# Altium footprint library Soldeerstation_Final.PcbLib: 27 footprints (part 1 of 2)
Each footprint in its own frame and in the unit in brackets; x right, y up, seen from the top. Pads: shape width x height; smd on the part's side, far side on the other; paste and mask are expansions set on the pad; w line width, h text height; cw(c..) or ccw(c..) is an arc to the next point about the centre after c.
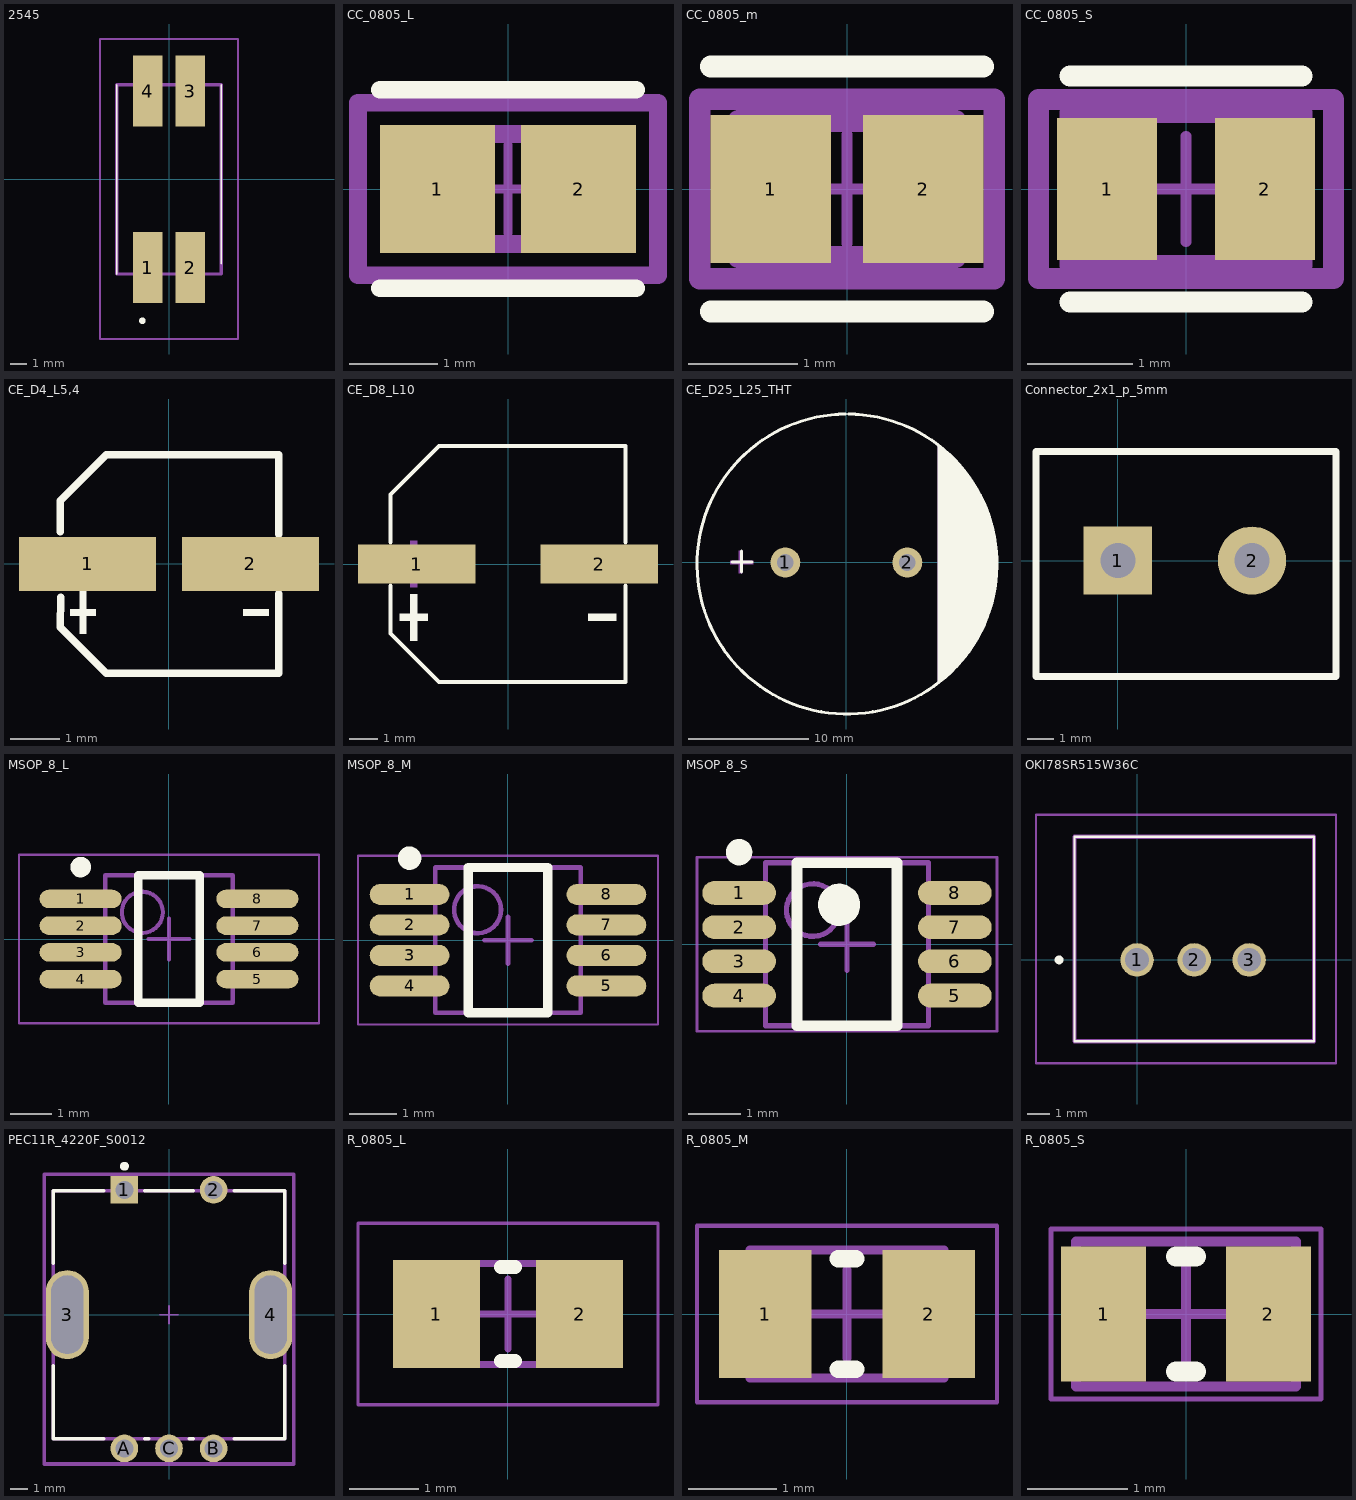
[diagram p0: the footprints below, top view; thin cyan lines are the x and y axes]

## 2545 [mm]
pads (4):
  rect 1.78x4.27 smd: 1(-1.27,-5.305) 2(1.27,-5.305) 3(1.27,5.305) 4(-1.27,5.305)
Top Overlay:
  lines w0.1: -3.15,-5.69 -3.15,5.69 ; 3.15,-5.08 3.15,5.69
  lines w0.2: -1.7,-8.5 ccw(c-1.6,-8.5) -1.5,-8.5 ccw(c-1.6,-8.5) -1.7,-8.5
Mechanical 13:
  lines w0.2: -3.15,-5.69 -3.15,5.69 3.15,5.69 3.15,-5.69 -3.15,-5.69
Mechanical 15:
  lines w0.1: -4.15,-9.6 -4.15,8.44 4.15,8.44 4.15,-9.6 -4.15,-9.6
3D body "CM2545X171R-10.stp": height 9.6, standoff 0, extent -3.15,-7.262 3.15,7.262

## CC_0805_L [mm]
pads (2):
  rect 1.305x1.456 smd paste+0 mask+0: 1(-0.801,0) 2(0.801,0)
Top Overlay:
  lines w0.2: -1.453,-1.128 1.453,-1.128 ; -1.453,1.128 1.453,1.128
Top 3D Body:
  lines w0.2: -1,-0.625 1,-0.625 1,0.625 -1,0.625 -1,-0.625
Top Courtyard:
  lines w0.2: -1.703,-0.978 1.703,-0.978 1.703,0.978 -1.703,0.978 -1.703,-0.978
Top Assembly:
  lines w0.2: -1.703,-0.978 1.703,-0.978 1.703,0.978 -1.703,0.978 -1.703,-0.978
  text ".Designator" at 0,0.188 h1
Top Component Center:
  lines w0.1: -0.5,0 0.5,0 ; 0,-0.5 0,0.5
3D body "Cap_KEMET_C0805C472J3HAC_eec.STEP": height 0.25, standoff 0, extent -1.703,-0.978 1.703,0.978

## CC_0805_m [mm]
pads (2):
  rect 1.105x1.356 smd paste+0 mask+0: 1(-0.701,0) 2(0.701,0)
Top Overlay:
  lines w0.2: -1.253,-1.125 1.253,-1.125 ; -1.253,1.125 1.253,1.125
Top 3D Body:
  lines w0.2: -1,-0.625 -1,0.625 1,0.625 1,-0.625 -1,-0.625
Top Courtyard:
  lines w0.2: -1.353,-0.825 -1.353,0.825 1.353,0.825 1.353,-0.825 -1.353,-0.825
Top Assembly:
  lines w0.2: -1.353,-0.825 -1.353,0.825 1.353,0.825 1.353,-0.825 -1.353,-0.825
  text ".Designator" at 0,0.188 h1
Top Component Center:
  lines w0.1: -0.5,0 0.5,0 ; 0,-0.5 0,0.5
3D body "Cap_KEMET_C0805C472J3HAC_eec.STEP": height 0.25, standoff 0, extent -1.353,-0.825 1.353,0.825

## CC_0805_S [mm]
pads (2):
  rect 0.95x1.35 smd paste+0 mask+0: 1(-0.75,0) 2(0.75,0)
Top Overlay:
  lines w0.2: -1.1,-1.075 1.1,-1.075 ; -1.1,1.075 1.1,1.075
Top 3D Body:
  lines w0.2: -1.1,-0.725 -1.1,0.725 1.1,0.725 1.1,-0.725 -1.1,-0.725
Top Courtyard:
  lines w0.2: -1.4,-0.85 -1.4,0.85 1.4,0.85 1.4,-0.85 -1.4,-0.85
Top Assembly:
  lines w0.2: -1.4,-0.85 -1.4,0.85 1.4,0.85 1.4,-0.85 -1.4,-0.85
  text ".Designator" at 0,0.188 h1
Top Component Center:
  lines w0.1: -0.5,0 0.5,0 ; 0,-0.5 0,0.5
3D body "Cap_KEMET_C0805C472J3HAC_eec.STEP": height 0.25, standoff 0, extent -1.4,-0.85 1.4,0.85

## CE_D4_L5,4 [mm]
pads (2):
  rect 2.8x1.1 smd: 1(-1.66,0) 2(1.66,0)
Top Overlay:
  region: 2.031,-0.925 2.031,-1.054 1.515,-1.054 1.515,-0.925
  region: -2.011,-0.925 -2.011,-1.054 -1.495,-1.054 -1.495,-0.925
  region: -1.818,-0.559 -1.818,-1.419 -1.689,-1.419 -1.689,-0.559
  lines w0.152: -2.215,0.66 -2.217,1.29 -1.28,2.225 2.235,2.225 2.235,0.607 ; -2.21,-0.676 -2.217,-1.29 -1.28,-2.226 2.236,-2.226 2.236,-0.607
Mechanical 15:
  region: 2.031,0.064 2.031,-0.065 1.515,-0.065 1.515,0.064
  region: -2.011,0.064 -2.011,-0.065 -1.495,-0.065 -1.495,0.064
  region: -1.818,0.43 -1.818,-0.43 -1.689,-0.43 -1.689,0.43

## CE_D8_L10 [mm]
pads (2):
  rect 4.2x1.4 smd: 1(-3.267,0) 2(3.267,0)
Top Overlay:
  region: 3.876,-1.785 3.876,-2.033 2.88,-2.033 2.88,-1.785
  region: -3.876,-1.785 -3.876,-2.033 -2.88,-2.033 -2.88,-1.785
  region: -3.503,-1.079 -3.503,-2.739 -3.254,-2.739 -3.254,-1.079
  lines w0.152: -4.201,-0.782 -4.201,-2.49 -2.465,-4.226 4.201,-4.226 4.201,-0.782 ; -4.201,0.782 -4.201,2.49 -2.465,4.226 4.201,4.226 4.201,0.782
Mechanical 15:
  region: 3.876,0.125 3.876,-0.125 2.88,-0.125 2.88,0.125
  region: -3.876,0.125 -3.876,-0.125 -2.88,-0.125 -2.88,0.125
  region: -3.503,0.83 -3.503,-0.83 -3.254,-0.83 -3.254,0.83

## CE_D25_L25_THT [mm]
pads (2):
  round 2.5 hole 1.4: 1(-5.08,0) 2(5.08,0)
Top Overlay:
  region: 7.62,-10.1 8,-9.808 8.712,-9.168 9.374,-8.476 9.981,-7.735 10.53,-6.95 11.017,-6.125 11.44,-5.266 11.797,-4.377 12.084,-3.463 12.301,-2.531 12.447,-1.584 12.52,-0.629 12.52,0.329 12.447,1.284 12.301,2.231 12.084,3.163 11.797,4.077 11.44,4.966 11.017,5.825 10.53,6.65 9.981,7.435 9.374,8.176 8.712,8.868 8,9.508 7.62,9.8
  lines w0.254: -9.525,0.051 -7.849,0.051 ; -8.738,-0.787 -8.738,0.94 ; -0.051,12.372 ccw(c0.058,-0.127) 0.168,12.372
Mechanical 15:
  region: 7.62,-10.1 8,-9.808 8.712,-9.168 9.374,-8.476 9.981,-7.735 10.53,-6.95 11.017,-6.125 11.44,-5.266 11.797,-4.377 12.084,-3.463 12.301,-2.531 12.447,-1.584 12.52,-0.629 12.52,0.329 12.447,1.284 12.301,2.231 12.084,3.163 11.797,4.077 11.44,4.966 11.017,5.825 10.53,6.65 9.981,7.435 9.374,8.176 8.712,8.868 8,9.508 7.62,9.8
  region: -9.65,0.15 -7.75,0.15 -7.75,-0.15 -9.65,-0.15
  region: -8.981,-0.906 -8.981,0.994 -8.681,0.994 -8.681,-0.906

## Connector_2x1_p_5mm [mm]
pads (2):
  rect 2.54x2.54 hole 1.3: 1(0,0)
  round 2.54 hole 1.3: 2(5,0)
Top Overlay:
  lines w0.254: -3.048,-4.318 8.128,-4.318 8.128,-3.54 8.128,-3 8.128,-1.968 8.128,1.714 8.128,2.746 8.128,4.064 7.874,4.064 -3.048,4.064 -3.048,0 -3.048,-4.318

## MSOP_8_L [mm] "TSOP, 8-Leads, Body 3x3mm, Pitch 0.65mm, IPC Low Density"
height 1.1
pads (8):
  oval 2x0.45 smd: 1(-2.15,0.975) 2(-2.15,0.325) 3(-2.15,-0.325) 4(-2.15,-0.975) 5(2.15,-0.975) 6(2.15,-0.325) 7(2.15,0.325) 8(2.15,0.975)
Top Overlay:
  circle w0.25: c-2.15,1.75 r0.125
  lines w0.2: -0.75,-1.55 -0.75,1.55 0.75,1.55 0.75,-1.55 -0.75,-1.55
Mechanical 13:
  circle w0.1: c-0.65,0.65 r0.5
  lines w0.1: -1.55,-1.55 -1.55,1.55 1.55,1.55 1.55,-1.55 -1.55,-1.55
Mechanical 15:
  lines w0.05: -3.65,-2.05 -3.65,2.05 3.65,2.05 3.65,-2.05 -3.65,-2.05
  lines w0.1: -0.5,0 0.5,0 ; 0,-0.5 0,0.5
3D body: height 1.1, standoff 0, extent -1.55,-1.55 1.55,1.55

## MSOP_8_M [mm] "TSOP, 8-Leads, Body 3x3mm, Pitch 0.65mm, IPC Medium Density"
height 1.1
pads (8):
  oval 1.7x0.45 smd: 1(-2.1,0.975) 2(-2.1,0.325) 3(-2.1,-0.325) 4(-2.1,-0.975) 5(2.1,-0.975) 6(2.1,-0.325) 7(2.1,0.325) 8(2.1,0.975)
Top Overlay:
  circle w0.25: c-2.1,1.75 r0.125
  lines w0.2: -0.85,-1.55 0.85,-1.55 0.85,1.55 -0.85,1.55 -0.85,-1.55
Mechanical 13:
  circle w0.1: c-0.65,0.65 r0.5
  lines w0.1: -1.55,-1.55 1.55,-1.55 1.55,1.55 -1.55,1.55 -1.55,-1.55
Mechanical 15:
  lines w0.05: -3.2,-1.8 3.2,-1.8 3.2,1.8 -3.2,1.8 -3.2,-1.8
  lines w0.1: -0.5,0 0.5,0 ; 0,-0.5 0,0.5
3D body: height 1.1, standoff 0, extent -1.55,-1.55 1.55,1.55

## MSOP_8_S [mm] "TSOP, 8-Leads, Body 3x3mm, Pitch 0.65mm, IPC High Density"
height 1.1
pads (8):
  oval 1.4x0.45 smd: 1(-2.05,0.975) 2(-2.05,0.325) 3(-2.05,-0.325) 4(-2.05,-0.975) 5(2.05,-0.975) 6(2.05,-0.325) 7(2.05,0.325) 8(2.05,0.975)
Top Overlay:
  circle w0.4: c-0.15,0.75 r0.2
  circle w0.25: c-2.05,1.75 r0.125
  lines w0.2: -0.95,-1.55 0.95,-1.55 0.95,1.55 -0.95,1.55 -0.95,-1.55
Mechanical 13:
  circle w0.1: c-0.65,0.65 r0.5
  lines w0.1: -1.55,-1.55 1.55,-1.55 1.55,1.55 -1.55,1.55 -1.55,-1.55
Mechanical 15:
  lines w0.05: -2.85,-1.65 2.85,-1.65 2.85,1.65 -2.85,1.65 -2.85,-1.65
  lines w0.1: -0.5,0 0.5,0 ; 0,-0.5 0,0.5
3D body: height 1.1, standoff 0, extent -1.55,-1.55 1.55,1.55

## OKI78SR515W36C [mm]
pads (3):
  round 1.519 hole 1.08: 1(0,0) 2(2.6,0) 3(5.1,0)
Top Overlay:
  lines w0.1: -2.85,-3.7 8.05,-3.7 8.05,5.6 -2.85,5.6 -2.85,-3.7
  lines w0.3: -3.6,0 cw(c-3.55,0) -3.5,0 cw(c-3.55,0) -3.6,0
Mechanical 13:
  lines w0.2: -2.85,-3.7 8.05,-3.7 8.05,5.6 -2.85,5.6 -2.85,-3.7
Mechanical 15:
  lines w0.1: -4.6,-4.7 9.05,-4.7 9.05,6.6 -4.6,6.6 -4.6,-4.7
3D body "OKI-78SR-5_1.5-W36-C.stp": height 16.6, standoff -5, extent -2.85,-3.7 8.05,5.6

## PEC11R_4220F_S0012 [mm]
pads (7):
  rect 1.55x1.55 hole 1 paste-1000 mask+0: 1(-2.5,7)
  round 1.55 hole 1 paste-1000 mask+0: 2(2.5,7) A(-2.5,-7.5) B(2.5,-7.5) C(0,-7.5)
  rrect100% 2.4x5 hole 4.4 slot 1.8 at 0 deg paste-1000 mask+0: 3(-5.7,0) 4(5.7,0)
Top Overlay:
  circle w0.25: c-2.5,8.325 r0.125
  lines w0.2: -6.5,-2.875 -6.5,-6.95 -3.65,-6.95 ; -6.5,2.875 -6.5,6.95 -3.65,6.95 ; -1.35,-6.95 -1.15,-6.95 ; -1.35,6.95 1.35,6.95 ; 1.15,-6.95 1.35,-6.95 ; 3.65,-6.95 6.5,-6.95 6.5,-2.875 ; 3.65,6.95 6.5,6.95 6.5,2.875
Top 3D Body:
  lines w0.2: -6.5,-6.95 -6.5,6.95 6.5,6.95 6.5,-6.95 -6.5,-6.95
Top Courtyard:
  lines w0.2: -7,-8.375 -7,7.875 7,7.875 7,-8.375 -7,-8.375
Top Assembly:
  lines w0.2: -7,-8.375 -7,7.875 7,7.875 7,-8.375 -7,-8.375
  text ".Designator" at 0,-0.062 h1
Top Component Center:
  lines w0.1: -0.5,0 0.5,0 ; 0,-0.5 0,0.5
3D body "Switch_Bourns_PEC11R-4220F-S0012_eec.STEP": height 0.25, standoff 0, extent -7,-8.375 7,7.875

## R_0805_L [mm] "Chip Resistor, 2-Leads, Body 2.00x1.25mm, IPC Low Density"
height 0.5
pads (2):
  rect 1.25x1.55 smd: 1(-1.025,0) 2(1.025,0)
Top Overlay:
  lines w0.2: -0.1,-0.675 0.1,-0.675 ; -0.1,0.675 0.1,0.675
Mechanical 13:
  lines w0.1: -1.1,-0.725 -1.1,0.725 1.1,0.725 1.1,-0.725 -1.1,-0.725
Mechanical 15:
  lines w0.05: -2.15,-1.3 -2.15,1.3 2.15,1.3 2.15,-1.3 -2.15,-1.3
  lines w0.1: -0.5,0 0.5,0 ; 0,-0.5 0,0.5
3D body: height 0.5, standoff 0, extent -0.8,-0.725 0.8,0.725
3D body: height 0.5, standoff 0, extent -1.1,-0.725 -0.8,0.725
3D body: height 0.5, standoff 0, extent 0.8,-0.725 1.1,0.725

## R_0805_M [mm] "Chip Resistor, 2-Leads, Body 2.00x1.25mm, IPC Medium Density"
height 0.5
pads (2):
  rect 1.05x1.45 smd: 1(-0.925,0) 2(0.925,0)
Top Overlay:
  lines w0.2: -0.1,-0.625 0.1,-0.625 ; -0.1,0.625 0.1,0.625
Mechanical 13:
  lines w0.1: -1.1,-0.725 1.1,-0.725 1.1,0.725 -1.1,0.725 -1.1,-0.725
Mechanical 15:
  lines w0.05: -1.7,-1 1.7,-1 1.7,1 -1.7,1 -1.7,-1
  lines w0.1: -0.5,0 0.5,0 ; 0,-0.5 0,0.5
3D body: height 0.5, standoff 0, extent 0.8,-0.725 1.1,0.725
3D body: height 0.5, standoff 0, extent -1.1,-0.725 -0.8,0.725
3D body: height 0.5, standoff 0, extent -0.8,-0.725 0.8,0.725

## R_0805_S [mm] "Chip Resistor, 2-Leads, Body 2.00x1.25mm, IPC High Density"
height 0.5
pads (2):
  rect 0.85x1.35 smd: 1(-0.825,0) 2(0.825,0)
Top Overlay:
  lines w0.2: -0.1,-0.575 0.1,-0.575 ; -0.1,0.575 0.1,0.575
Mechanical 13:
  lines w0.1: -1.1,-0.725 1.1,-0.725 1.1,0.725 -1.1,0.725 -1.1,-0.725
Mechanical 15:
  lines w0.05: -1.35,-0.85 1.35,-0.85 1.35,0.85 -1.35,0.85 -1.35,-0.85
  lines w0.1: -0.5,0 0.5,0 ; 0,-0.5 0,0.5
3D body: height 0.5, standoff 0, extent 0.8,-0.725 1.1,0.725
3D body: height 0.5, standoff 0, extent -1.1,-0.725 -0.8,0.725
3D body: height 0.5, standoff 0, extent -0.8,-0.725 0.8,0.725